# Altium integrated library ESP32-C3_SUPERMINI_SMD.IntLib: 1 symbol
Pins are listed as number, name and electrical type; pins without a type are passive.

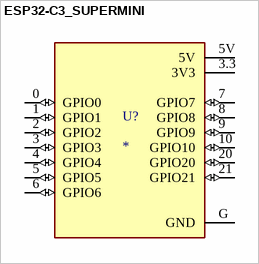
[diagram p0: symbol ESP32-C3_SUPERMINI]

## ESP32-C3_SUPERMINI
designator U?
Super tiny ESP32-C3 board; MF: Espressif Systems; MP: ESP32-C3 SuperMini; SnapEDA_Link: https://www.snapeda.com/parts/ESP32-C3%20SuperMini/Espressif+Systems/view-part/?ref=snap; Package: Package; Value: *; Check_prices: https://www.snapeda.com/parts/ESP32-C3%20SuperMini/Espressif+Systems/view-part/?ref=eda
footprint MODULE_ESP32-C3_SUPERMINI
pins: 0 GPIO0 (io), 1 GPIO1 (io), 2 GPIO2 (io), 3 GPIO3 (io), 3.3 3V3 (power), 4 GPIO4 (io), 5 GPIO5 (io), 5V (power), 6 GPIO6 (io), 7 GPIO7 (io), 8 GPIO8 (io), 9 GPIO9 (io), 10 GPIO10 (io), 20 GPIO20 (io), 21 GPIO21 (io), G GND (power)